# Altium footprint library LGA12.PcbLib: 1 footprints
Each footprint in its own frame and in the unit in brackets; x right, y up, seen from the top. Pads: shape width x height; smd on the part's side, far side on the other; paste and mask are expansions set on the pad; w line width, h text height; cw(c..) or ccw(c..) is an arc to the next point about the centre after c.
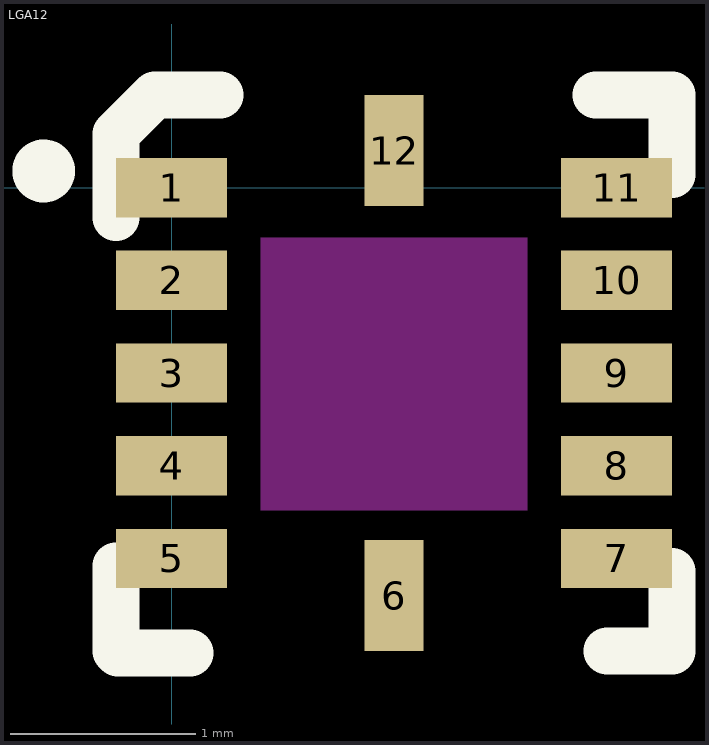
[diagram p0: the footprint, top view; thin cyan lines are the x and y axes]

## LGA12 [mm]
pads (12):
  rect 0.6x0.32 smd: 1(0,0) 2(0,-0.5) 3(0,-1) 4(0,-1.5) 5(0,-2) 7(2.4,-2) 8(2.4,-1.5) 9(2.4,-1) 10(2.4,-0.5) 11(2.4,0)
  rect 0.32x0.6 smd: 6(1.2,-2.2) 12(1.2,0.2)
Top Overlay:
  circle w0.254: c-0.69,0.09 r0.042
  lines w0.254: -0.3,-2.5 -0.3,-2.04 ; -0.3,-0.16 -0.3,0.29 -0.09,0.5 0.26,0.5 ; -0.29,-2.51 0.1,-2.51 ; 2.29,0.5 2.7,0.5 2.7,0.07 ; 2.35,-2.5 2.7,-2.5 2.7,-2.07
Keep-Out Layer:
  rectangle: 0.48,-1.74 1.92,-0.27
3D body: height 0.9, standoff 0.2, extent -0.3,-2.5 2.7,0.5